# Altium footprint library ConPower.PcbLib: 4 footprints
Each footprint in its own frame and in the unit in brackets; x right, y up, seen from the top. Pads: shape width x height; smd on the part's side, far side on the other; paste and mask are expansions set on the pad; w line width, h text height; cw(c..) or ccw(c..) is an arc to the next point about the centre after c.
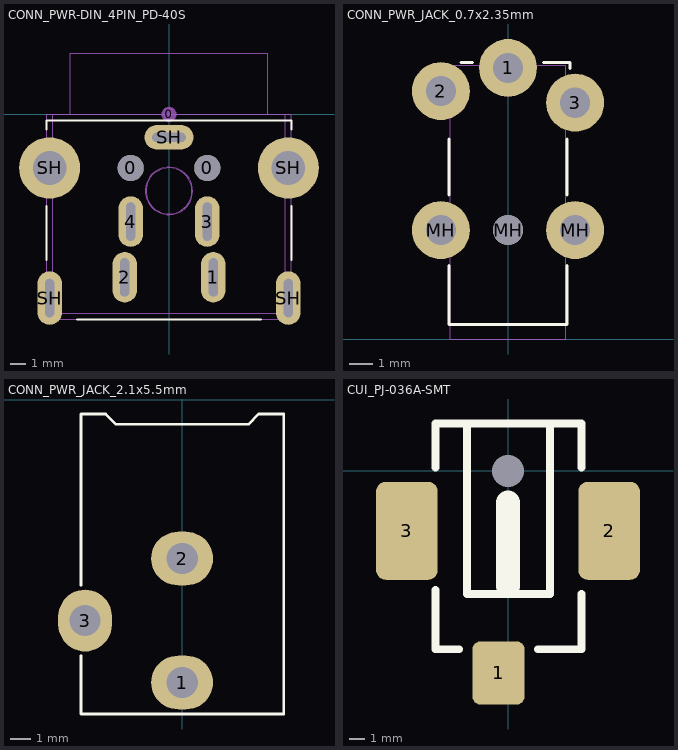
[diagram p0: the footprints below, top view; thin cyan lines are the x and y axes]

## CONN_PWR-DIN_4PIN_PD-40S [mm] "Power Connector, 4-pin DIN"
height 15
pads (12):
  round 1.7 hole 1.7 unplated: 0(-2.5,-3.5) 0(2.5,-3.5)
  round 1 on Mech15: 0(0,0)
  oval 1.6x3.3 hole 0.6 slot 2.5 at 90 deg: 1(2.9,-10.65) 2(-2.9,-10.65) 3(2.5,-7) 4(-2.5,-7)
  oval 1.6x3.5 hole 0.6 slot 2.5 at 90 deg: SH(-7.8,-12) SH(7.8,-12)
  round 4 hole 2.2: SH(-7.8,-3.5) SH(7.8,-3.5)
  oval 3.2x1.6 hole 0.6 slot 2.2 at 0 deg: SH(0,-1.5)
Top Overlay:
  lines w0.127: -8,-9.5 -8,-6 ; -8,-1 -8,-0.4 8,-0.4 8,-1 ; -6,-13.4 6,-13.4 ; 8,-9.5 8,-6
Mechanical 13:
  circle w0.05: c0,-5 r1.55
  circle w0.05: c0,-5 r1.5
  lines w0.05: -7.6,0 -7.6,-13.4 ; -6.45,0 -6.45,4 6.45,4 6.45,0 ; 7.6,0 7.6,-13.4 ; -8,-13 ccw(c-7.6,-13) -7.6,-13.4 ; -8,-13 8,-13 ; -8,-13 -8,0 8,0 8,-13 ; -7.6,-13.4 7.6,-13.4 ; 7.6,-13.4 ccw(c7.6,-13) 8,-13
3D body: height 15, standoff -3.5, extent -8,-13.4 8,4

## CONN_PWR_JACK_0.7x2.35mm [mm] "Power Connector, 0.7mm ID, 2.35mm OD"
height 5
pads (6):
  round 2.5 hole 1.3: 1(0,11.7) 2(-2.9,10.7) 3(2.9,10.2) MH(-2.9,4.7) MH(2.9,4.7)
  round 1.3 hole 1.3 unplated: MH(0,4.7)
Top Overlay:
  lines w0.127: -2.54,3.175 -2.54,0.635 2.54,0.635 2.54,3.175 ; -2.54,6.223 -2.54,8.636 ; -2.032,11.938 -1.524,11.938 ; 1.524,11.938 2.667,11.938 2.667,11.684 ; 2.54,6.223 2.54,8.636
Mechanical 13:
  lines w0.05: -2.819,4.204 -2.819,5.194 ; -2.819,10.198 -2.819,11.189 ; -2.502,4.204 -3.073,4.204 -3.073,5.194 -2.502,5.194 ; -2.502,10.198 -3.073,10.198 -3.073,11.189 -2.502,11.189 ; -0.495,11.811 -0.495,11.938 0.495,11.938 0.495,11.811 ; 2.502,4.204 3.073,4.204 3.073,5.194 2.502,5.194 ; 2.502,9.716 3.073,9.716 3.073,10.706 2.502,10.706 ; 2.819,4.204 2.819,5.194 ; 2.819,9.716 2.819,10.706 ; -2.502,0 -2.502,11.811 2.502,11.811 2.502,0 -2.502,0
3D body: height 5, standoff -2.5, extent -3.309,0 3.309,12.054

## CONN_PWR_JACK_2.1x5.5mm [mm] "Power Connector, 2.1mm ID, 5.5mm OD"
height 11
pads (3):
  oval 3x2.6 hole 1.511: 1(0,-13.7) 2(0,-7.7)
  oval 2.6x3 hole 1.511: 3(-4.7,-10.7)
Top Overlay:
  lines w0.127: -4.9,-12.4 -4.9,-15.225 4.925,-15.225 4.925,-0.7 3.7,-0.7 3.2,-1.2 -3.2,-1.2 -3.7,-0.7 -4.9,-0.7 -4.9,-9
Mechanical 13:
  lines w0.076: -4.9,-12.4 -4.9,-15.225 4.925,-15.225 4.925,-0.7 3.7,-0.7 3.2,-1.2 -3.2,-1.2 -3.7,-0.7 -4.9,-0.7 -4.9,-9
3D body: height 11, standoff -3.5, extent -4.9,-14.1 4.5,0

## CUI_PJ-036A-SMT [mm]
pads (4):
  rrect30% 3.3x4 smd: 1(-0.6,-12.8)
  rrect30% 3.9x6.2 smd: 2(6.4,-3.8) 3(-6.4,-3.8)
  rrect30% 0x0 hole 2.032 unplated: 4(0,0)
Top Overlay:
  lines w0.5: -4.6,-7.55 -4.6,-11.3 -3.1,-11.3 ; -4.6,0.2 -4.6,3 4.65,3 4.65,0.2 ; -2.6,3 -2.6,-7.8 2.65,-7.8 2.65,2.9 ; 1.9,-11.3 4.65,-11.3 4.65,-7.8
  lines w1.5: 0,-7.3 0,-2
3D body: height 11.09, standoff -1.51, extent -7.5,-14.1 7.7,3